# Altium footprint library SamacSys.PcbLib: 17 footprints (part 1 of 2)
Each footprint in its own frame and in the unit in brackets; x right, y up, seen from the top. Pads: shape width x height; smd on the part's side, far side on the other; paste and mask are expansions set on the pad; w line width, h text height; cw(c..) or ccw(c..) is an arc to the next point about the centre after c.
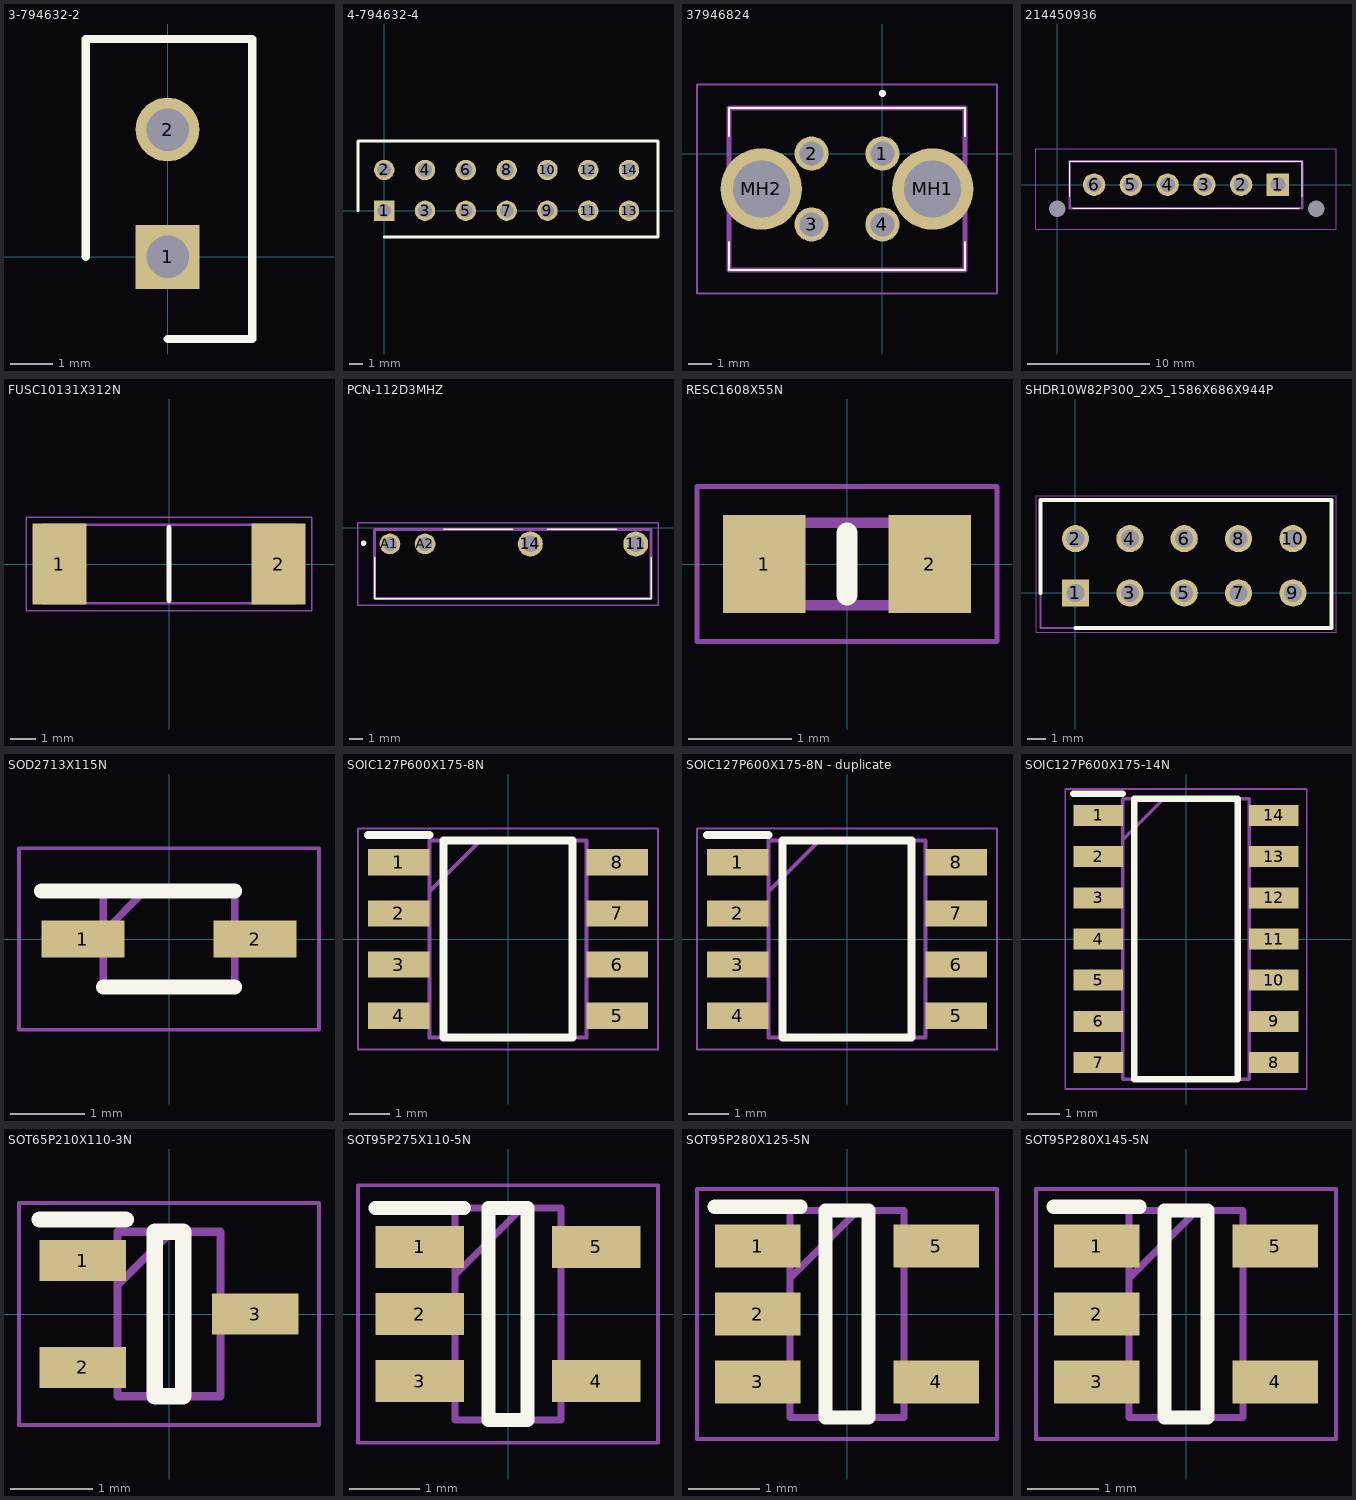
[diagram p0: the footprints below, top view; thin cyan lines are the x and y axes]

## 3-794632-2 [mm] "2 Pos, Micro MATE-N-LOK"
pads (2):
  rect 1.5x1.5 hole 1: 1(0,0)
  round 1.5 hole 1: 2(0,3)
Top Overlay:
  lines w0.2: -1.93,0 -1.93,5.13 2,5.13 2,-1.93 0,-1.93
3D body "c-3-794632-2-g-3d.stp": height 9.25, standoff -3.17, extent -3.5,-3.23 3.5,5.44

## 4-794632-4 [mm] "14 Way Micro MATE-N-LOK"
pads (14):
  rect 1.5x1.5 hole 1: 1(0,0)
  round 1.5 hole 1: 2(0,3) 3(3,0) 4(3,3) 5(6,0) 6(6,3) 7(9,0) 8(9,3) 9(12,0) 10(12,3) 11(15,0) 12(15,3) 13(18,0) 14(18,3)
Top Overlay:
  lines w0.2: -1.93,0 -1.93,5.13 20.13,5.13 20.13,-1.93 0,-1.93
3D body "c-4-794632-4-g-3d.stp": height 9.25, standoff -3.17, extent -3.505,-3.192 21.495,5.478

## 37946824 [mm]
pads (6):
  round 1.45 hole 1.02: 1(0,0) 2(-3,0) 3(-3,-3) 4(0,-3)
  round 3.45 hole 2.41: MH1(2.13,-1.5) MH2(-5.13,-1.5)
Top Overlay:
  lines w0.1: -6.5,-4.93 3.5,-4.93 ; -6.5,-4.93 3.5,-4.93 ; -6.5,-4.93 -6.5,-3.75 -6.5,-4.93 ; -6.5,1.93 -6.5,0.75 -6.5,1.93 ; -6.5,1.93 3.5,1.93 ; -6.5,1.93 3.5,1.93 ; 3.5,-4.93 3.5,-3.75 3.5,-4.93 ; 3.5,1.93 3.5,0.75 3.5,1.93
  lines w0.2: 0,2.5 cw(c0,2.55) 0,2.6 ; 0,2.5 ccw(c0,2.55) 0,2.6 ; 0,2.5 cw(c0,2.55) 0,2.6
Mechanical 13:
  lines w0.2: -6.5,-4.93 3.5,-4.93 3.5,1.93 -6.5,1.93 -6.5,-4.93
Mechanical 15:
  lines w0.1: -7.855,-5.93 4.855,-5.93 4.855,2.93 -7.855,2.93 -7.855,-5.93
3D body "3-794682-4.stp": height 8.88, standoff -3.54, extent -6.524,-5.972 3.476,2.698

## 214450936 [mm]
pads (8):
  rect 1.83x1.83 hole 1.22: 1(18,0)
  round 1.83 hole 1.22: 2(15,0) 3(12,0) 4(9,0) 5(6,0) 6(3,0)
  round 0.675 hole 1.35 unplated: MH1(21.14,-1.96) MH2(0,-1.96)
Top Overlay:
  lines w0.1: 1,1.93 1,-1 1,1.93 ; 1,1.93 20,1.93 ; 1,1.93 20,1.93 ; 20,1.93 20,-1 20,1.93 ; 1.25,-1.93 19.75,-1.93 1.25,-1.93
Mechanical 13:
  lines w0.2: 1,-1.93 1,1.93 20,1.93 20,-1.93 1,-1.93
Mechanical 15:
  lines w0.1: -1.745,-3.635 -1.745,2.93 22.745,2.93 22.745,-3.635 -1.745,-3.635
3D body "2-1445093-6.stp": height 9.09, standoff -3.33, extent -0.4,-2.53 21.4,3.14

## FUSC10131X312N [mm]
pads (2):
  rect 2.16x3.23 smd: 1(-4.375,0) 2(4.375,0)
Top Overlay:
  lines w0.2: 0,-1.46 0,1.46
Mechanical 13:
  lines w0.1: -5.05,-1.56 5.05,-1.56 5.05,1.56 -5.05,1.56 -5.05,-1.56
Mechanical 15:
  lines w0.05: -5.705,-1.865 5.705,-1.865 5.705,1.865 -5.705,1.865 -5.705,-1.865
3D body "0461.500ER.stp": height 3.12, standoff 0, extent -5.05,-1.56 5.05,1.56

## PCN-112D3MHZ [mm]
pads (4):
  round 1.8 hole 1.2: 11(31.039,-1.168) 14(23.419,-1.168)
  round 1.5 hole 1: A1(13.259,-1.168) A2(15.799,-1.168)
Top Overlay:
  lines w0.1: 12.149,-2.118 12.149,-5.118 32.149,-5.118 32.149,-2.118 ; 17.149,-0.118 22.149,-0.118 ; 24.649,-0.118 29.649,-0.118
  lines w0.2: 11.349,-1.218 ccw(c11.349,-1.118) 11.349,-1.018 ccw(c11.349,-1.118) 11.349,-1.218
Mechanical 13:
  lines w0.2: 12.149,-5.118 12.149,-0.118 32.149,-0.118 32.149,-5.118 12.149,-5.118
Mechanical 15:
  lines w0.1: 10.949,-5.618 10.949,0.382 32.649,0.382 32.649,-5.618 10.949,-5.618
3D body "PCN-112D3MHZ.stp": height 12.6, standoff -5, extent 12.149,-5.118 32.149,-0.118

## RESC1608X55N [mm]
pads (2):
  rect 0.8x0.95 smd: 1(-0.8,0) 2(0.8,0)
Top Overlay:
  lines w0.2: 0,-0.3 0,0.3
Mechanical 13:
  lines w0.1: -0.8,-0.4 -0.8,0.4 0.8,0.4 0.8,-0.4 -0.8,-0.4
Mechanical 15:
  lines w0.05: -1.45,-0.75 -1.45,0.75 1.45,0.75 1.45,-0.75 -1.45,-0.75
3D body "RT0603BRD0750KL.stp": height 0.55, standoff 0, extent -0.8,-0.4 0.8,0.4

## SHDR10W82P300_2X5_1586X686X944P [mm]
pads (10):
  rect 1.5x1.5 hole 1: 1(0,0)
  round 1.5 hole 1: 2(0,3) 3(3,0) 4(3,3) 5(6,0) 6(6,3) 7(9,0) 8(9,3) 9(12,0) 10(12,3)
Top Overlay:
  lines w0.2: -1.93,0 -1.93,5.13 14.13,5.13 14.13,-1.93 0,-1.93
Mechanical 13:
  lines w0.1: -1.93,-1.93 14.13,-1.93 14.13,5.13 -1.93,5.13 -1.93,-1.93
Mechanical 15:
  lines w0.05: -2.18,-2.18 14.38,-2.18 14.38,5.38 -2.18,5.38 -2.18,-2.18
3D body "4-794632-0.stp": height 8.88, standoff -3.54, extent -3.531,-2.455 15.469,6.215

## SOD2713X115N [mm]
pads (2):
  rect 1.125x0.5 smd: 1(-1.162,0) 2(1.162,0)
Top Overlay:
  lines w0.2: -1.725,0.65 0.888,0.65 ; -0.888,-0.65 0.888,-0.65
Mechanical 13:
  lines w0.1: -0.888,0.088 -0.325,0.65 ; -0.888,-0.65 0.888,-0.65 0.888,0.65 -0.888,0.65 -0.888,-0.65
Mechanical 15:
  lines w0.05: -2.025,-1.225 2.025,-1.225 2.025,1.225 -2.025,1.225 -2.025,-1.225
3D body "BZX384C5V6-HG3-08.stp": height 1.15, standoff 0, extent -1.338,-0.65 1.338,0.65

## SOIC127P600X175-8N [mm]
pads (8):
  rect 1.525x0.65 smd: 1(-2.712,1.905) 2(-2.712,0.635) 3(-2.712,-0.635) 4(-2.712,-1.905) 5(2.712,-1.905) 6(2.712,-0.635) 7(2.712,0.635) 8(2.712,1.905)
Top Overlay:
  lines w0.2: -3.475,2.58 -1.95,2.58 ; -1.6,-2.45 1.6,-2.45 1.6,2.45 -1.6,2.45 -1.6,-2.45
Mechanical 13:
  lines w0.1: -1.95,1.18 -0.68,2.45 ; -1.95,-2.45 1.95,-2.45 1.95,2.45 -1.95,2.45 -1.95,-2.45
Mechanical 15:
  lines w0.05: -3.725,-2.75 3.725,-2.75 3.725,2.75 -3.725,2.75 -3.725,-2.75
3D body "NE555DR.stp": height 1.75, standoff 0, extent -3,-2.45 3,2.45

## SOIC127P600X175-8N - duplicate [mm]
pads (8):
  rect 1.525x0.65 smd: 1(-2.712,1.905) 2(-2.712,0.635) 3(-2.712,-0.635) 4(-2.712,-1.905) 5(2.712,-1.905) 6(2.712,-0.635) 7(2.712,0.635) 8(2.712,1.905)
Top Overlay:
  lines w0.2: -3.475,2.58 -1.95,2.58 ; -1.6,-2.45 1.6,-2.45 1.6,2.45 -1.6,2.45 -1.6,-2.45
Mechanical 13:
  lines w0.1: -1.95,1.18 -0.68,2.45 ; -1.95,-2.45 1.95,-2.45 1.95,2.45 -1.95,2.45 -1.95,-2.45
Mechanical 15:
  lines w0.05: -3.725,-2.75 3.725,-2.75 3.725,2.75 -3.725,2.75 -3.725,-2.75
3D body "NE555DR.stp": height 1.75, standoff 0, extent -3,-2.45 3,2.45

## SOIC127P600X175-14N [mm]
pads (14):
  rect 1.525x0.65 smd: 1(-2.712,3.81) 2(-2.712,2.54) 3(-2.712,1.27) 4(-2.712,0) 5(-2.712,-1.27) 6(-2.712,-2.54) 7(-2.712,-3.81) 8(2.712,-3.81) 9(2.712,-2.54) 10(2.712,-1.27) 11(2.712,0) 12(2.712,1.27) 13(2.712,2.54) 14(2.712,3.81)
Top Overlay:
  lines w0.2: -3.475,4.485 -1.95,4.485 ; -1.6,-4.325 -1.6,4.325 1.6,4.325 1.6,-4.325 -1.6,-4.325
Mechanical 13:
  lines w0.1: -1.95,3.055 -0.68,4.325 ; -1.95,-4.325 -1.95,4.325 1.95,4.325 1.95,-4.325 -1.95,-4.325
Mechanical 15:
  lines w0.05: -3.725,-4.625 -3.725,4.625 3.725,4.625 3.725,-4.625 -3.725,-4.625
3D body "TLV3494AID.stp": height 1.75, standoff 0, extent -3,-4.325 3,4.325

## SOT65P210X110-3N [mm]
pads (3):
  rect 1.05x0.5 smd: 1(-1.05,0.65) 2(-1.05,-0.65) 3(1.05,0)
Top Overlay:
  lines w0.2: -1.575,1.15 -0.525,1.15 ; -0.175,-1 -0.175,1 0.175,1 0.175,-1 -0.175,-1
Mechanical 13:
  lines w0.1: -0.625,0.35 0.025,1 ; -0.625,-1 -0.625,1 0.625,1 0.625,-1 -0.625,-1
Mechanical 15:
  lines w0.05: -1.825,-1.35 -1.825,1.35 1.825,1.35 1.825,-1.35 -1.825,-1.35
3D body "ESDCAN03-2BWY.stp": height 1.1, standoff 0, extent -1.05,-1 1.05,1

## SOT95P275X110-5N [mm]
pads (5):
  rect 1.25x0.6 smd: 1(-1.25,0.95) 2(-1.25,0) 3(-1.25,-0.95) 4(1.25,-0.95) 5(1.25,0.95)
Top Overlay:
  lines w0.2: -1.875,1.5 -0.625,1.5 ; -0.275,-1.5 -0.275,1.5 0.275,1.5 0.275,-1.5 -0.275,-1.5
Mechanical 13:
  lines w0.1: -0.75,0.55 0.2,1.5 ; -0.75,-1.5 -0.75,1.5 0.75,1.5 0.75,-1.5 -0.75,-1.5
Mechanical 15:
  lines w0.05: -2.125,-1.825 -2.125,1.825 2.125,1.825 2.125,-1.825 -2.125,-1.825
3D body "NC7S32M5X.stp": height 1.1, standoff 0, extent -1.375,-1.5 1.375,1.5

## SOT95P280X125-5N [mm]
pads (5):
  rect 1.2x0.6 smd: 1(-1.25,0.95) 2(-1.25,0) 3(-1.25,-0.95) 4(1.25,-0.95) 5(1.25,0.95)
Top Overlay:
  lines w0.2: -1.85,1.5 -0.65,1.5 ; -0.3,-1.45 -0.3,1.45 0.3,1.45 0.3,-1.45 -0.3,-1.45
Mechanical 13:
  lines w0.1: -0.8,0.5 0.15,1.45 ; -0.8,-1.45 -0.8,1.45 0.8,1.45 0.8,-1.45 -0.8,-1.45
Mechanical 15:
  lines w0.05: -2.1,-1.75 -2.1,1.75 2.1,1.75 2.1,-1.75 -2.1,-1.75
3D body "NC7S02M5X.stp": height 1.25, standoff 0, extent -1.4,-1.45 1.4,1.45

## SOT95P280X145-5N [mm]
pads (5):
  rect 1.2x0.6 smd: 1(-1.25,0.95) 2(-1.25,0) 3(-1.25,-0.95) 4(1.25,-0.95) 5(1.25,0.95)
Top Overlay:
  lines w0.2: -1.85,1.5 -0.65,1.5 ; -0.3,-1.45 -0.3,1.45 0.3,1.45 0.3,-1.45 -0.3,-1.45
Mechanical 13:
  lines w0.1: -0.8,0.5 0.15,1.45 ; -0.8,-1.45 -0.8,1.45 0.8,1.45 0.8,-1.45 -0.8,-1.45
Mechanical 15:
  lines w0.05: -2.1,-1.75 -2.1,1.75 2.1,1.75 2.1,-1.75 -2.1,-1.75
3D body "NC7SZ00M5X.stp": height 1.45, standoff 0, extent -1.4,-1.45 1.4,1.45